# Altium footprint library CAP_1uF_805.PcbLib: 3 footprints
Each footprint in its own frame and in the unit in brackets; x right, y up, seen from the top. Pads: shape width x height; smd on the part's side, far side on the other; paste and mask are expansions set on the pad; w line width, h text height; cw(c..) or ccw(c..) is an arc to the next point about the centre after c.
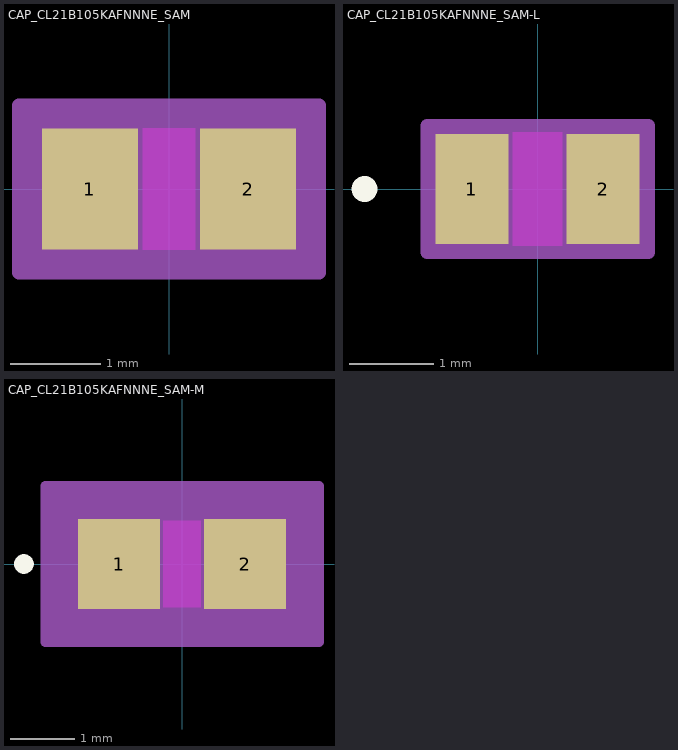
[diagram p0: the footprints below, top view; thin cyan lines are the x and y axes]

## CAP_CL21B105KAFNNNE_SAM [mil]
pads (2):
  rect 42x53 smd paste+0 mask+0: 1(-34.5,0) 2(34.5,0)
Top Layer keep-out:
  region: -11.5,-24.5 -11.5,24.5 11.5,24.5 11.5,-24.5
Keep-Out Layer:
  region: -11.5,-26.5 -11.5,26.5 11.5,26.5 11.5,-26.5
Mechanical 13:
  circle w0: c-29.5,0 r0
  lines w1: -41.5,-26.5 -41.5,26.5 ; -41.5,-26.5 -13.5,-26.5 -13.5,26.5 -41.5,26.5 ; -41.5,-26.5 41.5,-26.5 ; -41.5,-26.5 -41.5,26.5 ; -41.5,26.5 41.5,26.5 ; 41.5,-26.5 13.5,-26.5 13.5,26.5 41.5,26.5 ; 41.5,-26.5 41.5,26.5 ; 41.5,-26.5 41.5,26.5
Mechanical 15:
  region: 65.5,-36.5 -65.5,-36.5 -65.5,36.5 65.5,36.5
  lines w6: -65.5,-36.5 -65.5,36.5 65.5,36.5 65.5,-36.5 -65.5,-36.5
3D body "CAP_CL21B105KAFNNNE_SAM.step": height 52.99, standoff 0, extent -41.5,-26.5 41.5,26.5

## CAP_CL21B105KAFNNNE_SAM-L [mil]
pads (2):
  rect 34x51 smd paste+0 mask+0: 1(-30.5,0) 2(30.5,0)
Top Layer keep-out:
  region: -11.5,-24.5 -11.5,24.5 11.5,24.5 11.5,-24.5
Top Overlay:
  circle w6: c-80.5,0 r3
Keep-Out Layer:
  region: -11.5,-26.5 -11.5,26.5 11.5,26.5 11.5,-26.5
Mechanical 13:
  circle w0: c-25.5,0 r3
  lines w1: -41.5,-26.5 -41.5,26.5 ; -41.5,-26.5 -13.5,-26.5 -13.5,26.5 -41.5,26.5 ; -41.5,-26.5 41.5,-26.5 ; -41.5,-26.5 -41.5,26.5 ; -41.5,26.5 41.5,26.5 ; 41.5,-26.5 13.5,-26.5 13.5,26.5 41.5,26.5 ; 41.5,-26.5 41.5,26.5 ; 41.5,-26.5 41.5,26.5
Mechanical 15:
  region: 51.5,-29.5 -51.5,-29.5 -51.5,29.5 51.5,29.5
  lines w6: -51.5,-29.5 -51.5,29.5 51.5,29.5 51.5,-29.5 -51.5,-29.5
3D body "CAP_CL21B105KAFNNNE_SAM.step": height 52.99, standoff 0, extent -41.5,-26.5 41.5,26.5

## CAP_CL21B105KAFNNNE_SAM-M [mil]
pads (2):
  rect 50x55 smd paste+0 mask+0: 1(-38.5,0) 2(38.5,0)
Top Layer keep-out:
  region: -11.5,-24.5 -11.5,24.5 11.5,24.5 11.5,-24.5
Top Overlay:
  circle w6: c-96.5,0 r3
Keep-Out Layer:
  region: -11.5,-26.5 -11.5,26.5 11.5,26.5 11.5,-26.5
Mechanical 13:
  circle w0: c-33.5,0 r3
  lines w1: -41.5,-26.5 -41.5,26.5 ; -41.5,-26.5 -13.5,-26.5 -13.5,26.5 -41.5,26.5 ; -41.5,-26.5 41.5,-26.5 ; -41.5,-26.5 -41.5,26.5 ; -41.5,26.5 41.5,26.5 ; 41.5,-26.5 13.5,-26.5 13.5,26.5 41.5,26.5 ; 41.5,-26.5 41.5,26.5 ; 41.5,-26.5 41.5,26.5
Mechanical 15:
  region: 83.5,-47.5 -83.5,-47.5 -83.5,47.5 83.5,47.5
  lines w6: -83.5,-47.5 -83.5,47.5 83.5,47.5 83.5,-47.5 -83.5,-47.5
3D body "CAP_CL21B105KAFNNNE_SAM.step": height 52.99, standoff 0, extent -41.5,-26.5 41.5,26.5